# Altium schematic symbol library Crystal-3225.SchLib: 1 symbol
Pins are listed as number, name and electrical type; pins without a type are passive.

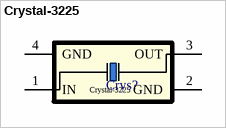
[diagram p0: symbol Crystal-3225]

## Crystal-3225
designator Crys?  (value not drawn)
footprint Crystal-3225
pins: 1 IN, 2 GND, 3 OUT, 4 GND